# Altium footprint library LED-1206.PcbLib: 1 footprints
Each footprint in its own frame and in the unit in brackets; x right, y up, seen from the top. Pads: shape width x height; smd on the part's side, far side on the other; paste and mask are expansions set on the pad; w line width, h text height; cw(c..) or ccw(c..) is an arc to the next point about the centre after c.
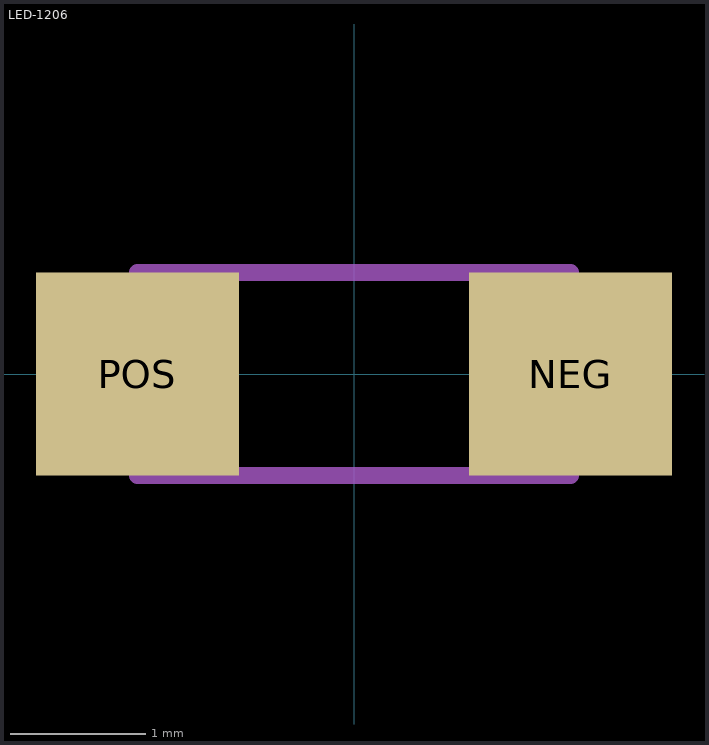
[diagram p0: the footprint, top view; thin cyan lines are the x and y axes]

## LED-1206 [mm]
pads (2):
  rect 1.5x1.5 smd: NEG(1.6,0) POS(-1.6,0)
Assembly Top:
  lines w0.127: -1.6,-0.75 1.6,-0.75 1.6,0.75 -1.6,0.75 -1.6,-0.75
3D body "step_temp.STEP": height 0.75, standoff 0, extent 0,-1.3 3,0